# Altium footprint library TSQFP50P1600X1600X109_HS-100M.PcbLib: 1 footprints
Each footprint in its own frame and in the unit in brackets; x right, y up, seen from the top. Pads: shape width x height; smd on the part's side, far side on the other; paste and mask are expansions set on the pad; w line width, h text height; cw(c..) or ccw(c..) is an arc to the next point about the centre after c.
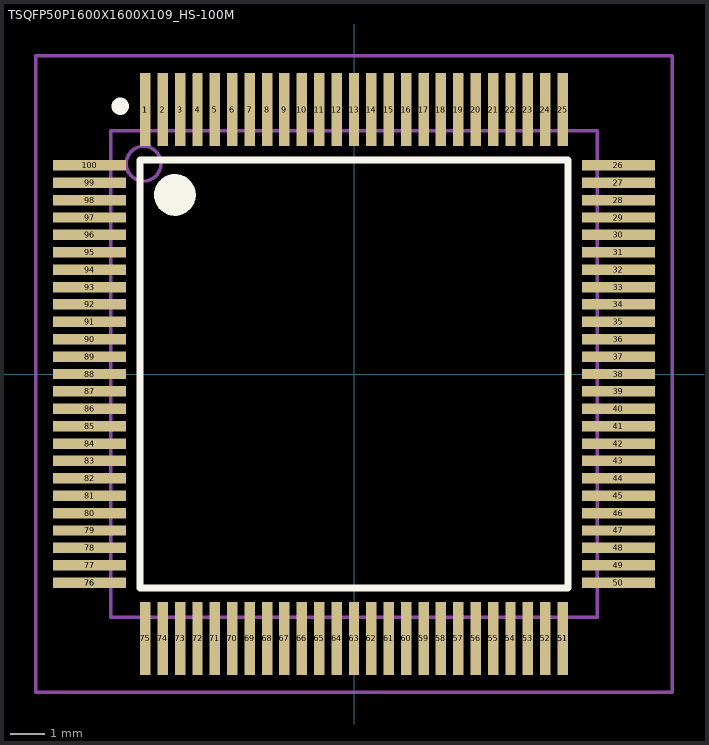
[diagram p0: the footprint, top view; thin cyan lines are the x and y axes]

## TSQFP50P1600X1600X109_HS-100M [mm]
pads (103):
  rect 0.3x2.1 smd: 1(-6,7.6) 1(-6,7.6) 2(-5.5,7.6) 3(-5,7.6) 4(-4.5,7.6) 5(-4,7.6) 6(-3.5,7.6) 7(-3,7.6) 8(-2.5,7.6) 9(-2,7.6) 10(-1.5,7.6) 11(-1,7.6) 12(-0.5,7.6) 13(0,7.6) 14(0.5,7.6) 15(1,7.6) 16(1.5,7.6) 17(2,7.6) 18(2.5,7.6) 19(3,7.6) 20(3.5,7.6) 21(4,7.6) 22(4.5,7.6) 23(5,7.6) 24(5.5,7.6) 25(6,7.6) 51(6,-7.6) 51(6,-7.6) 52(5.5,-7.6) 53(5,-7.6) 54(4.5,-7.6) 55(4,-7.6) 56(3.5,-7.6) 57(3,-7.6) 58(2.5,-7.6) 59(2,-7.6) 60(1.5,-7.6) 61(1,-7.6) 62(0.5,-7.6) 63(0,-7.6) 64(-0.5,-7.6) 65(-1,-7.6) 66(-1.5,-7.6) 67(-2,-7.6) 68(-2.5,-7.6) 69(-3,-7.6) 70(-3.5,-7.6) 71(-4,-7.6) 72(-4.5,-7.6) 73(-5,-7.6) 74(-5.5,-7.6) 75(-6,-7.6)
  rect 2.1x0.3 smd: 26(7.6,6) 27(7.6,5.5) 28(7.6,5) 29(7.6,4.5) 30(7.6,4) 31(7.6,3.5) 32(7.6,3) 33(7.6,2.5) 34(7.6,2) 35(7.6,1.5) 36(7.6,1) 37(7.6,0.5) 38(7.6,0) 39(7.6,-0.5) 40(7.6,-1) 41(7.6,-1.5) 42(7.6,-2) 43(7.6,-2.5) 44(7.6,-3) 45(7.6,-3.5) 46(7.6,-4) 47(7.6,-4.5) 48(7.6,-5) 49(7.6,-5.5) 50(7.6,-6) 76(-7.6,-6) 76(-7.6,-6) 77(-7.6,-5.5) 78(-7.6,-5) 79(-7.6,-4.5) 80(-7.6,-4) 81(-7.6,-3.5) 82(-7.6,-3) 83(-7.6,-2.5) 84(-7.6,-2) 85(-7.6,-1.5) 86(-7.6,-1) 87(-7.6,-0.5) 88(-7.6,0) 89(-7.6,0.5) 90(-7.6,1) 91(-7.6,1.5) 92(-7.6,2) 93(-7.6,2.5) 94(-7.6,3) 95(-7.6,3.5) 96(-7.6,4) 97(-7.6,4.5) 98(-7.6,5) 99(-7.6,5.5) 100(-7.6,6)
Top Overlay:
  circle w0.6: c-5.15,5.15 r0.3
  circle w0.25: c-6.725,7.7 r0.125
  lines w0.2: -6.15,-6.15 6.15,-6.15 6.15,6.15 -6.15,6.15 -6.15,-6.15
Mechanical 13:
  circle w0.1: c-6.05,6.05 r0.5
  lines w0.1: -7,-7 7,-7 7,7 -7,7 -7,-7
Mechanical 15:
  lines w0.1: -9.15,-9.15 9.15,-9.15 9.15,9.15 -9.15,9.15 -9.15,-9.15
3D body: height 1.09, standoff 0.4, extent -7.025,-7.025 6.975,6.975